# Altium schematic symbol library MMC5983MA.SchLib: 1 symbol
Pins are listed as number, name and electrical type; pins without a type are passive.

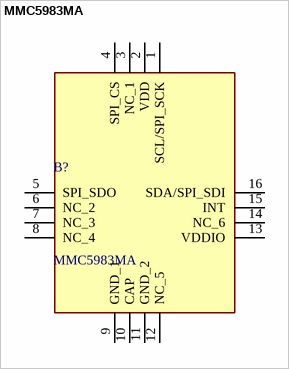
[diagram p0: symbol MMC5983MA]

## MMC5983MA
designator B?
3-AXIS MAGNETIC SENSOR; Manufacturer_Name: MEMSIC; Geometry.Height: 1mm; Mouser Part Number: 438-MMC5983MA; Mouser Price/Stock: https://www.mouser.co.uk/ProductDetail/MEMSIC/MMC5983MA?qs=B6kkDfuK7%2FD5qasHMdEt2g%3D%3D; Manufacturer_Part_Number: MMC5983MA; Datasheet Link: *
footprint MMC5983MA
pins: 1 SCL/SPI_SCK, 2 VDD, 3 NC_1, 4 SPI_CS, 5 SPI_SDO, 6 NC_2, 7 NC_3, 8 NC_4, 9 GND_1, 10 CAP, 11 GND_2, 12 NC_5, 13 VDDIO, 14 NC_6, 15 INT, 16 SDA/SPI_SDI